# Altium schematic symbol library tuya_.SchLib: 16 symbols
Pins are listed as number, name and electrical type; pins without a type are passive.

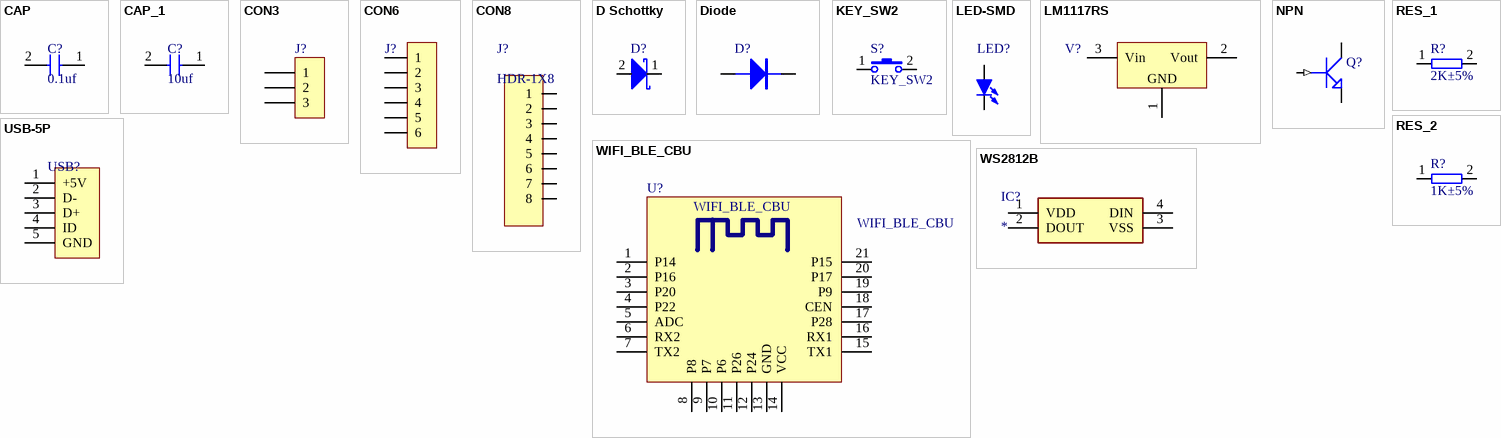
[diagram p0: symbols CAP to WS2812B]

## CAP
designator C?, comment 0.1uf
电容
footprint C 0402_M (无极性贴片电容)
pins: 1, 2

## CAP_1
designator C?, comment 10uf
电容
footprint C 0603_M (无极性贴片电容)
pins: 1, 2

## CON3
designator J?, comment KF301-3P  (value not drawn)
Connector
footprint SIP3 - 2.54
footprint DG7620-3P
footprint CON3-5.0 (DG128-5.0-2P-14)
footprint HDR2.54-LI-3P (排针，3脚)
pins: 1, 2, 3

## CON6
designator J?, comment HDR-1X6  (value not drawn)
connector; BOM名称: 6P接插件; 版权归属: 源创客; 学习资源: www.ooocke.com
footprint XH2.54-WI-6P (接插件，6P)
footprint XH2.54-LI-6P (接插件，6P)
footprint HDR2.54-LI-6P (排针，6脚)
footprint HDR2.54-M-LI-6P (排母，6脚)
footprint HDR2.54-WI-6P (弯脚排针，6脚)
footprint HDR2.54-WS-6P (6P卧式贴片排针2.54)
footprint HDR2.54-Y-LI-6P (圆孔排母，6脚)
footprint HDR2.54-M-WS-6P (6P卧式贴片排母2.54)
footprint KF2510-LI-6P (接插件/2A)
footprint XH2.54-WS-6P (长：20mm，宽：8mm，高：6.1mm)
footprint XH2.54-LS-6P (长：20mm，宽：6mm，高：8.3mm)
footprint KF2EDGK-2.54-LI-6P (长：17.1mm，宽：8.1mm，高：10.1mm)
footprint KF2EDGK-2.54-WI-6P (长：17.1mm，宽：10.1mm，高：8.1mm)
footprint HDR2.54-LI-6P (排针，6脚)
pins: 1, 2, 3, 4, 5, 6

## CON8
designator J?, comment HDR-1X8
connector
footprint HDR2.54-LI-8P (排针，8脚)
pins: 1, 2, 3, 4, 5, 6, 7, 8

## D Schottky
designator D?, comment SMBJ05CA  (value not drawn)
Schottky Diode; MFR: Toshiba
footprint SMB(DO-214AA)
pins: 1, 2

## Diode
designator D?, comment SS210  (value not drawn)
Diode
footprint SMB(DO-214AA)
footprint SOD-323
footprint SSCD204L
footprint MiniMELF(SOD-80) (LL41481)
footprint SMA(DO-214AC)
pins: 1, 2

## KEY_SW2
designator S?
按键
footprint KEY_S4
footprint KEY_S4 - 2
footprint KEY4-SMD
footprint TSW SMD-4*4*1.5 (轻触开关，长宽高：4*4*1.5mm)
pins: 1, 2

## LED-SMD
designator LED?, comment LED  (value not drawn)
贴片LED; 版权归属: 源创客; BOM名称: 贴片LED; 学习资源: www.ooocke.com
footprint LED 0603W (白色0603LED)
footprint LED 0603R (红色0603LED)
footprint LED 0603B (蓝色0603LED)
footprint LED 0603G (绿色0603LED)
footprint LED 0603Y (黄色0603LED)
footprint LED 0805G (绿色0805LED)
footprint LED 0805R (红色0805LED)
footprint LED 0805B (蓝色0805LED)
footprint LED 0805Y (黄色0805LED)
footprint LED 3528-2Pin (2脚，3528LED)
footprint LED 1206G (绿色1206LED)
footprint LED 5730-V (紫色5730LED)
footprint LED 1206Y (黄色1206LED)
footprint LED 0805W (白色0805LED)
footprint LED 1206B (蓝色1206LED)
footprint LED 1206W (白色1206LED)
footprint LED 1206R (红色1206LED)
footprint LED 0805B (蓝色0805LED)
pins: 1 A, 2 K

## LM1117RS
designator V?, comment LM1117RS-3V3  (value not drawn)
三端稳压芯片; BOM名称: 稳压芯片; 版权归属: 源创客; 学习资源: www.ooocke.com
footprint SOT223_M (6.4x7x1.6mm(长宽高))
footprint SOT223_N (6.4x7x1.6mm(长宽高))
footprint SOT89_L (4.6x4.3x1.6mm(长宽高))
footprint SOT89_N (4.6x4.3x1.6mm(长宽高))
footprint SOT89_M (4.6x4.3x1.6mm(长宽高))
pins: 1 GND, 2 Vout, 3 Vin

## NPN
designator Q?, comment S8050  (value not drawn)
NPN Transistor
footprint SOT-23-NPN
pins: 1 E, 2 B (in), 3 C

## RES_1
designator R?, comment 2K±5%
电阻
footprint R1/4W
footprint R1/2W
footprint R1/4WL
footprint 0603
footprint R0603
footprint R0805
footprint R-1/6W
footprint R0805
footprint 0603R
pins: 1, 2

## RES_2
designator R?, comment 1K±5%
电阻
footprint R1/4W
footprint R1/2W
footprint R1/4WL
footprint 0603
footprint R0603
footprint R0805
footprint R-1/6W
footprint R0805
footprint 0603R
pins: 1, 2

## USB-5P
designator USB?  (value not drawn)
微型USB母座; 版权归属: 源创客; BOM名称: 微型USB母座; 学习资源: www.ooocke.com
footprint USB-MICRO_A (micro型USB ，5.9*8.2*2.5mm)
footprint USB-MICRO_B (micro型USB ，5.7*7.8*2.5mm)
footprint USB-MINI-A (MINI型USB，7.9*7.5*4.1mm)
footprint USB-MICRO_C (micro型USB ，5.7*7.8*2.5mm)
footprint USB-MICRO_D (micro型USB ，6.7*7.5*2.5mm)
footprint USB-MICRO_E (micro型USB ，5.9*8.2*2.5mm)
footprint USB-MICRO_D (micro型USB ，6.7*7.5*2.5mm)
pins: 1 +5V, 2 D-, 3 D+, 4 ID, 5 GND

## WIFI_BLE_CBU
designator U?
Module
footprint WIFI_BLE_CBU
pins: 1 P14, 2 P16, 3 P20, 4 P22, 5 ADC, 6 RX2, 7 TX2, 8 P8, 9 P7, 10 P6, 11 P26, 12 P24, 13 GND, 14 VCC, 15 TX1, 16 RX1, 17 P28, 18 CEN, 19 P9, 20 P17, 21 P15

## WS2812B
designator IC?
Integrated Circuit; Manufacturer_Name: SparkFun; Manufacturer_Part_Number: COM-16346; Datasheet Link: http://cdn.sparkfun.com/datasheets/BreakoutBoards/WS2812B.pdf; Height: 2.25mm; Mouser Part Number: 474-COM-16346; Mouser Price/Stock: https://www.mouser.co.uk/ProductDetail/SparkFun/COM-16346?qs=OlC7AqGiEDnspdV1Dchx7w%3D%3D
footprint COM16346
pins: 1 VDD, 2 DOUT, 3 VSS, 4 DIN